# EAGLE library part MCP6N11 (library nonolith)
MCP6N11 Microchip Instrumentation Amplifier
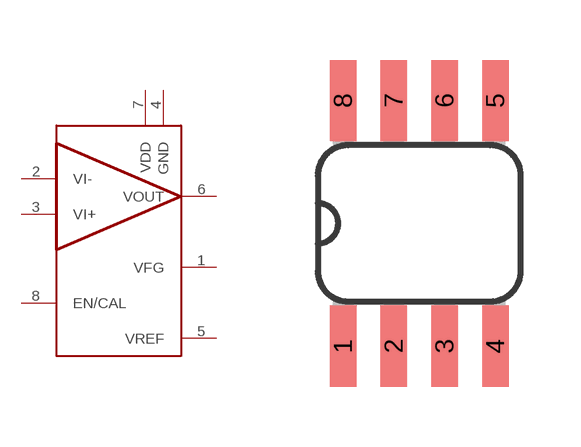
[diagram p39: symbol with the pads of SO-08; footprint SO-08]

Designator prefix -

## MCP6N11  [SO-08]
1  VFG
2  VI-
3  VI+
4  GND
5  VREF
6  VOUT
7  VDD
8  EN/CAL

## Footprint SO-08 (pad centres in mm)
smd 0.66 x 2.032: 1 -1.905,-3.073; 2 -0.635,-3.073; 3 0.635,-3.073; 4 1.905,-3.073; 5 1.905,3.073; 6 0.635,3.073; 7 -0.635,3.073; 8 -1.905,3.073